# Altium footprint library PcbLib1.PcbLib: 2 footprints
Each footprint in its own frame and in the unit in brackets; x right, y up, seen from the top. Pads: shape width x height; smd on the part's side, far side on the other; paste and mask are expansions set on the pad; w line width, h text height; cw(c..) or ccw(c..) is an arc to the next point about the centre after c.
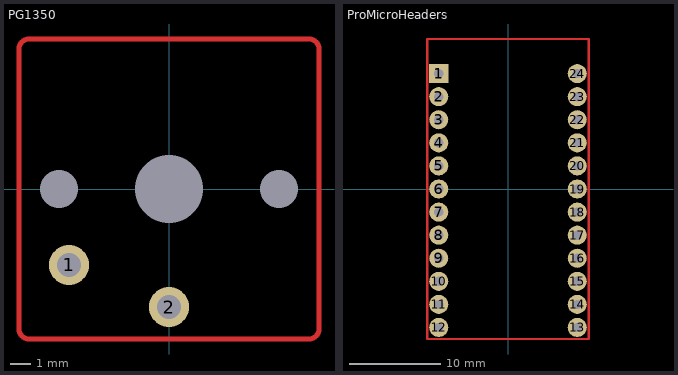
[diagram p0: the footprints below, top view; thin cyan lines are the x and y axes]

## PG1350 [mm]
pads (5):
  round 2 hole 1.2: 1(-5,-3.8) 2(0,-5.9)
  round 1.524 hole 1.9 unplated: ""(-5.5,0)
  round 0 hole 3.4 unplated: ""(0,0)
  round 1.524 hole 1.9: ""(5.5,0)
Top Layer:
  lines w0.254: -7.5,-7 ccw(c-7,-7) -7,-7.5 7,-7.5 ccw(c7,-7) 7.5,-7 7.5,7 ccw(c7,7) 7,7.5 -7,7.5 ccw(c-7,7) -7.5,7 -7.5,-7
  text "PG1350" at -4.19,3.954 h1.52

## ProMicroHeaders [mm]
pads (24):
  rect 2.1x2.1 hole 1.02: 1(-7.62,12.7)
  round 2.1 hole 1.02: 2(-7.62,10.16) 3(-7.62,7.62) 4(-7.62,5.08) 5(-7.62,2.54) 6(-7.62,0) 7(-7.62,-2.54) 8(-7.62,-5.08) 9(-7.62,-7.62) 10(-7.62,-10.16) 11(-7.62,-12.7) 12(-7.62,-15.24) 13(7.62,-15.24) 14(7.62,-12.7) 15(7.62,-10.16) 16(7.62,-7.62) 17(7.62,-5.08) 18(7.62,-2.54) 19(7.62,0) 20(7.62,2.54) 21(7.62,5.08) 22(7.62,7.62) 23(7.62,10.16) 24(7.62,12.7)
Top Layer:
  lines w0.254: -8.89,-16.51 8.89,-16.51 8.89,16.51 -8.89,16.51 -8.89,-16.51
  text "ProMicro" at -5.713,-0.762 h1.52